# EAGLE library part LDL112PU33R (library SamacSys_Parts)
LDO Voltage Regulators 1.2 A low quiescent current LDO with reverse current protection Source: Datasheet <https://www.st.com/resource/en/datasheet/ldl112.pdf>
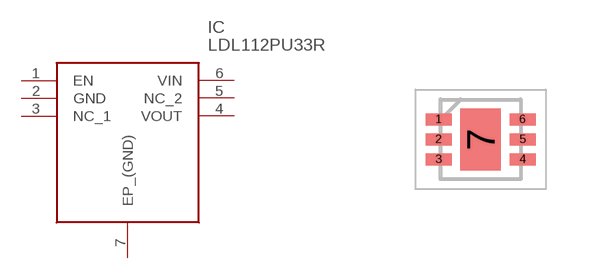
[diagram p12: symbol with the pads of SON50P200X200X80-7N; footprint SON50P200X200X80-7N]

Designator prefix IC

## LDL112PU33R (ARROW_PART_NUMBER: LDL112PU33R; ARROW_PRICE-STOCK: https://www.arrow.com/en/products/ldl112pu33r/stmicroelectronics; DESCRIPTION: LDO Voltage Regulators 1.2 A low quiescent current LDO with reverse current protection; HEIGHT: 0.8mm; MANUFACTURER_NAME: STMicroelectronics; MANUFACTURER_PART_NUMBER: LDL112PU33R; MOUSER_PART_NUMBER: 511-LDL112PU33R; MOUSER_PRICE-STOCK: https://www.mouser.co.uk/ProductDetail/STMicroelectronics/LDL112PU33R/?qs=WHlX%252B%252B9%2FRwD8ypEueOpCuA%3D%3D)  [SON50P200X200X80-7N]
1  EN
2  GND
3  NC_1
4  VOUT
5  NC_2
6  VIN
7  EP_(GND)

## Footprint SON50P200X200X80-7N (pad centres in mm)
DFN6 (2x2) package
smd 0.65 x 0.3: 1 -1.05,0.5; 2 -1.05,0; 3 -1.05,-0.5; 4 1.05,-0.5; 5 1.05,0; 6 1.05,0.5
smd 1.02 x 1.55: 7 0,0